# Altium schematic symbol library Soldering_Station_Library.SchLib: 34 symbols
Pins are listed as number, name and electrical type; pins without a type are passive.

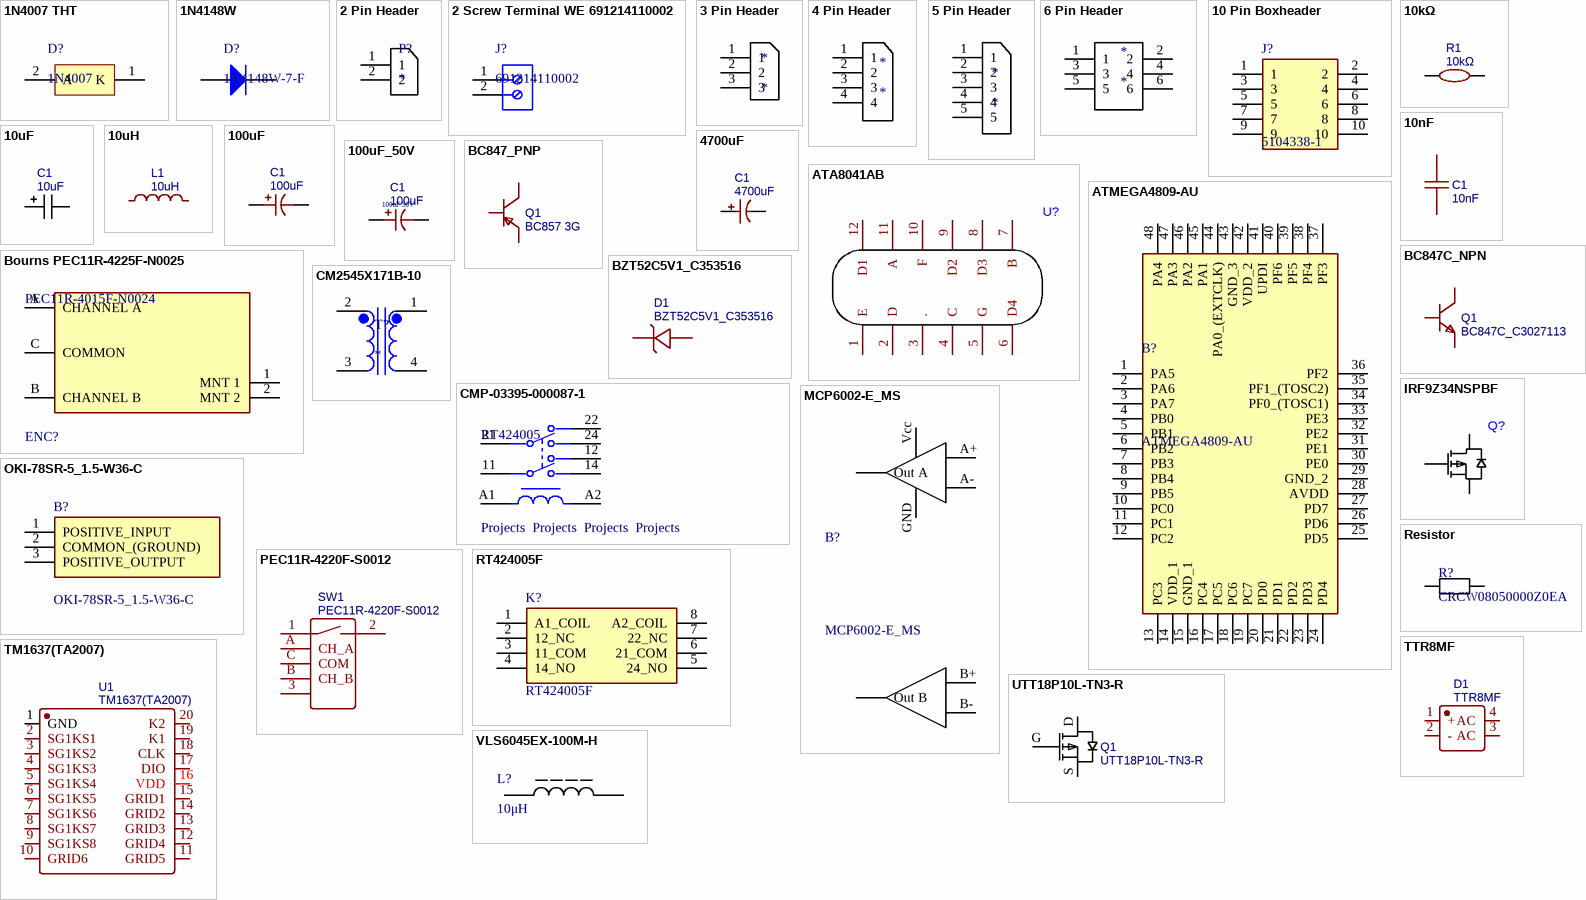
[diagram p0: symbols 1N4007 THT to VLS6045EX-100M-H]

## 1N4007 THT
designator D?, comment 1N4007
Standard Recovery Rectifier, 2-Pin Axial_Lead, Pb-Free, Bulk Bag; Manufacturer: On Semiconductor; IO(rec) Max (A): 1; IFSM Max (A): 30; VRRM Max (V): 1000; ComponentLink3URL: http://www.onsemi.cn/pub_link/Collateral/59-10.PDF; PackageVersion: Rev. U, 02/2005; PackageDescription: 2-Pin, Axial Lead, Diameter 2.35 mm; PackageReference: AXIAL_LEAD-2-59-10; RoHS: TRUE; PartNumber: 1N4007; Packing: Bulk Bag; DatasheetVersion: Rev. 13; ComponentLink3Description: Package Specification; ComponentLink1Description: Manufacturer URL; ComponentLink2URL: http://www.onsemi.com/pub_link/Collateral/1N4001-D.PDF; ComponentLink1URL: http://www.onsemi.com/; Type: Standard Recovery; ComponentLink2Description: Datasheet; Mounting Technology: Through Hole
footprint ONSC-AXIAL_LEAD-2-59-10_P (AXIAL, 2-Leads, Diameter 2.35mm)
pins: 1 K, 2 A

## 1N4148W
designator D?, comment 1N4148W-7-F
Fast Switching Diode, 100 V, 0.15 A, -65 to 150 degC, 2-Pin?SOD123, RoHS, Tape and Reel; Recovery Time: 4ns; Brand: DiodesIncorporated; Unit Weight: 0.000353oz; Max Surge Current: 2A; Peak Reverse Voltage: 100V; Ir - Reverse Current: 1uA; Vf - Forward Voltage: 1.25V; Configuration: Single; If - Forward Current: 0.15A; Product Category: Diodes-GeneralPurpose,Power,Switching; Operating Temperature Range: -65Cto+150C; Packaging: Reel; Manufacturer URL: http://www.diodes.com/; Maximum Operating Temperature: +150C; Height: 1.25mm; Minimum Operating Temperature: -65C; Product: SwitchingDiodes; Package URL: http://www.diodes.com/datasheets/ds18004.pdf; Type: SwitchingDiode; Package Reference: SOD123-2; Width: 1.7mm; Datasheet URL: http://www.farnell.com/datasheets/1915529.pdf; Datasheet Version: Rev. 24-2, 10/2013; Series: 1N4148; Factory Pack Quantity: 3000; Length: 2.85mm; RoHS: True; Manufacturer: DiodesIncorporated; Mounting Style: SMD/SMT; Package / Case: SOD-123
footprint DIOD-SOD123-2_V (SOD123, 2-Leads, Body 2.7x1.55mm, Height 1.45mm)
pins: 1 A, 2 K

## 2 Pin Header
designator P?
Connector Terminal Blocks Receptacle 2 Position 5.08mm Solder Straight Thru-Hole 13.5A/Contact; MP: 282837-2; MF: TE Connectivity; Check_prices: https://www.snapeda.com/parts/282837-2/TE+Connectivity+AMP+Connectors/view-part/?ref=eda; Value: *; Availability: In Stock; Price: None; Package: None; SnapEDA_Link: https://www.snapeda.com/parts/282837-2/TE+Connectivity+AMP+Connectors/view-part/?ref=snap; Purchase-URL: https://pricing.snapeda.com/search/part/282837-2/?ref=eda
footprint TE_282837-2
pins: 1, 2

## 2 Screw Terminal WE 691214110002
designator J?, comment 691214110002
Serie 2141 - 3.50 mm Horizontal Entry Modular with Rising Cage Clamp WR-TBL, 2 pin; Manufacturer: Wurth Elektronik; Pin Number: 2; Pitch: 3.50mm; Datasheet URL: http://katalog.we-online.de/em/datasheet/6912141100xx.pdf; Packaging: Box; Mounting Technology: THT; Package Reference: 691214110002; Manufacturer URL: http://www.we-online.de; Part Number: 691214110002; Publisher: WurthElektronik; Operating Temperature: -40to105degC
footprint 691214110002 (3.50 mm Horizontal Entry Modular, 2p)
pins: 1, 2

## 3 Pin Header
designator *
pins: 1, 2, 3

## 4 Pin Header
designator *
pins: 1, 2, 3, 4

## 5 Pin Header
designator *
pins: 1, 2, 3, 4, 5

## 6 Pin Header
designator *
pins: 1, 2, 3, 4, 5, 6

## 10 Pin Boxheader
designator J?, comment 5104338-1
Header vert 10 way 2.54mm AmpLatch; Manufacturer_Name: TE Connectivity; Geometry.Height: 9.855mm; Mouser Part Number: 571-5104338-1; Mouser Price/Stock: https://www.mouser.co.uk/ProductDetail/TE-Connectivity/5104338-1?qs=84A%2FDAdkstJBRnv2z9usOA%3D%3D; Manufacturer_Part_Number: 5104338-1; Datasheet Link: https://www.te.com/commerce/DocumentDelivery/DDEController?Action=showdoc&DocId=Customer+Drawing%7F5104338%7FE%7Fpdf%7FEnglish%7FENG_CD_5104338_E.pdf%7F5104338-1
footprint SHDR10W82P254_2X5_2026X914X986P
pins: 1, 2, 3, 4, 5, 6, 7, 8, 9, 10

## 10kΩ
designator R1
BOM_Manufacturer: UNI-ROYAL(厚声); BOM_Manufacturer Part: 0805W8F1002T5E; nameAlias: Resistance; Resistance (Ohms): 10K; BOM_Supplier: LCSC; BOM_Supplier Part: C17414; BOM_JLCPCB Part Class: Basic Part; spicePre: R; spiceSymbolName: 0805W8F1002T5E
footprint R0805
pins: 1, 2

## 10nF
designator C1
BOM_Manufacturer: CCTC(三环); BOM_Manufacturer Part: TCC0805X7R103M500DT; nameAlias: Capacitance; Contributor: LCSC; BOM_Supplier: LCSC; BOM_Supplier Part: C376921; BOM_JLCPCB Part Class: Extended Part; spicePre: C; spiceSymbolName: TCC0805X7R103M500DT
footprint C0805
pins: 1, 2

## 10uF
designator C1
BOM_Manufacturer: ST(先科); BOM_Manufacturer Part: CS1E100M-CRC54; nameAlias: Capacitance; Contributor: LCSC; BOM_Supplier: LCSC; BOM_Supplier Part: C98750; BOM_JLCPCB Part Class: Extended Part; spicePre: C; spiceSymbolName: CS1E100M-CRC54
footprint CAP-SMD_BD4.0-L4.3-W4.3-FD-LS5.3
pins: 1, 2

## 10uH
designator L1
BOM_Manufacturer: KOHERelec(科或); BOM_Manufacturer Part: PMI201214S-100M; nameAlias: Inductance; Contributor: LCSC; BOM_Supplier: LCSC; BOM_Supplier Part: C2922559; BOM_JLCPCB Part Class: Extended Part; spicePre: L; spiceSymbolName: PMI201214S-100M
footprint IND-SMD_L2.0-W1.3
pins: 1, 2

## 100uF
designator C1
BOM_Manufacturer: Nichicon(尼吉康); BOM_Manufacturer Part: UWT1H101MNL1GS; Contributor: LCSC; nameAlias: Capacitance; BOM_Supplier: LCSC; BOM_Supplier Part: C445063; BOM_JLCPCB Part Class: Extended Part; spicePre: C; spiceSymbolName: UWT1H101MNL1GS
footprint CAP-SMD_BD8.0-L8.3-W8.3-FD
pins: 1, 2

## 100uF_50V
designator C1, comment 100uF
BOM_Manufacturer: Nichicon(尼吉康); BOM_Manufacturer Part: UWT1H101MNL1GS; Contributor: LCSC; nameAlias: Capacitance; BOM_Supplier: LCSC; BOM_Supplier Part: C445063; BOM_JLCPCB Part Class: Extended Part; spicePre: C; spiceSymbolName: UWT1H101MNL1GS
footprint CAP-SMD_BD8.0-L8.3-W8.3-FD
pins: 1, 2
text: 100uF 50V

## 4700uF
designator C1
BOM_Manufacturer: CX(承兴); BOM_Manufacturer Part: GR478M050O25RR0VZ2FPD; nameAlias: Capacitance; BOM_Supplier: LCSC; BOM_Supplier Part: C45663; BOM_JLCPCB Part Class: Extended Part; spicePre: C; spiceSymbolName: 4700uF 50V 25*25Purple high frequency plus gasket
footprint CAP-TH_BD25.0-P10.00-D1.4-FD
pins: 1, 2

## ATA8041AB
designator U?
footprint NONE
pins: 1 E, 2 D, 3 ., 4 C, 5 G, 6 D4, 7 B, 8 D3, 9 D2, 10 F, 11 A, 12 D1

## ATMEGA4809-AU
designator B?
8-bit Microcontrollers - MCU 20MHz, 48KB, TQFP; Manufacturer_Name: Microchip; Geometry.Height: 1.2mm; Mouser Part Number: 556-ATMEGA4809-AU; Mouser Price/Stock: https://www.mouser.co.uk/ProductDetail/Microchip-Technology-Atmel/ATMEGA4809-AU?qs=P1JMDcb91o4zLIorxO9tIg%3D%3D; Manufacturer_Part_Number: ATMEGA4809-AU; Datasheet Link: *
footprint QFP50P900X900X120-48N
pins: 1 PA5, 2 PA6, 3 PA7, 4 PB0, 5 PB1, 6 PB2, 7 PB3, 8 PB4, 9 PB5, 10 PC0, 11 PC1, 12 PC2, 13 PC3, 14 VDD_1, 15 GND_1, 16 PC4, 17 PC5, 18 PC6, 19 PC7, 20 PD0, 21 PD1, 22 PD2, 23 PD3, 24 PD4, 25 PD5, 26 PD6, 27 PD7, 28 AVDD, 29 GND_2, 30 PE0, 31 PE1, 32 PE2, 33 PE3, 34 PF0_(TOSC1), 35 PF1_(TOSC2), 36 PF2, 37 PF3, 38 PF4, 39 PF5, 40 PF6, 41 UPDI, 42 VDD_2, 43 GND_3, 44 PA0_(EXTCLK), 45 PA1, 46 PA2, 47 PA3, 48 PA4

## BC847_PNP
designator Q1, comment BC857 3G
BOM_Manufacturer: CJ(江苏长电/长晶); BOM_Supplier: LCSC; BOM_Manufacturer Part: BC857; BOM_Supplier Part: C2139; BOM_JLCPCB Part Class: Extended Part; spicePre: Q; spiceSymbolName: BC857 3G
footprint SOT-23-3_L2.9-W1.6-P1.90-LS2.8-BR
pins: 1, 2, 3

## BC847C_NPN
designator Q1, comment BC847C_C3027113
BOM_Manufacturer: SALLTECH(萨瑞); BOM_Manufacturer Part: BC847C; Contributor: lcsc; BOM_Supplier: LCSC; BOM_Supplier Part: C3027113; link: https://atta.szlcsc.com/upload/public/pdf/source/20220824/287706FC7904CA05889B348536529CCD.pdf; BOM_JLCPCB Part Class: Extended Part; spicePre: Q; spiceSymbolName: BC847C_C3027113
footprint SOT-23-3_L2.9-W1.3-P0.95-LS2.4-BR
pins: 1 B, 2 E, 3 C

## Bourns PEC11R-4225F-N0025
designator ENC?, comment PEC11R-4015F-N0024
ROTARY ENCODER MECHANICAL 24PPR; Manufacturer: Bourns; Current Rating: 10mA; Number Of Circuits: 1; Conn Orientation: Vertical; Encoder Type: Incremental; Detent: No; Pulses Per Rev: 24; Voltage Rating Dc: 5V; Manufacturer Part Number: PEC11R-4015F-N0024; Height: 22.3mm; ComponentLink2URL: https://www.bourns.com/docs/product-datasheets/pec11r.pdf?sfvrsn=bb617cbf_7; Mouser Description: Encoders 15mm SHAFT NO SWITCH; Package: 0; RoHS: TRUE; Temperature Range High: +70°C; Device Class L1: Electromechanical; Device Class L3: Encoders; Temperature Range Low: -30°C; Device Class L2: Switches; Temperature: -30°C to +70°C; Category: Enc; ComponentLink2Description: Datasheet; Lead Free: Yes; Automotive: No; Octopart: https://octopart.com/pec11r-4015f-n0024-bourns-26648251; Digikey Description: ROTARY ENCODER MECHANICAL 24PPR
footprint FP-PEC11R-4015F-N0024-MFG
pins: 1 MNT 1, 2 MNT 2, A CHANNEL A, B CHANNEL B, C COMMON

## BZT52C5V1_C353516
designator D1
BOM_Manufacturer: 晶导微电子; Contributor: LCSC; BOM_Supplier: LCSC; BOM_Supplier Part: C353516; BOM_Manufacturer Part: BZT52C5V1; BOM_JLCPCB Part Class: Extended Part; spicePre: D; spiceSymbolName: BZT52C5V1_C353516
footprint SOD-123_L2.7-W1.7-LS3.8-RD
pins: 1 K, 2 A

## CM2545X171B-10
designator T?
2 Line Common Mode Choke Through Hole 170 Ohms @ 100 MHz 10A DCR 10mOhm; MF: Laird; MP: CM2545X171B-10; Value: *; Purchase-URL: https://pricing.snapeda.com/search/part/CM2545X171B-10/?ref=eda; Price: None; Package: Vertical-4 Laird; SnapEDA_Link: https://www.snapeda.com/parts/CM2545X171B-10/Laird/view-part/?ref=snap; Availability: In Stock; Check_prices: https://www.snapeda.com/parts/CM2545X171B-10/Laird/view-part/?ref=eda
footprint XFMR_CM2545X171B-10
pins: 1, 2, 3, 4

## CMP-03395-000087-1
designator Projects, comment Projects  Projects  Projects  RT424005
RELAY GENERAL PURPOSE DPDT 8A 5V; Manufacturer: TE Connectivity; Coil Power: 403mW; Number Of Contacts: 2; Coil Resistance: 62Ω; Coil Type: Non-Latching; Manufacturer Part Number: RT424005; Category: Relay; Octopart: https://octopart.com/5-1393243-9-te+connectivity-41835766; Device Class L3: Power Relays; ComponentLink2URL: https://www.te.com/commerce/DocumentDelivery/DDEController?Action=showdoc&DocId=Data+Sheet%7FRT2%7F1014%7Fpdf%7FEnglish%7FENG_DS_RT2_1014.pdf%7F5-1393243-9; Ambient Temperature Range High: +85°C; ComponentLink2Description: Datasheet; Throw Configuration: DPDT; Digikey Description: RELAY GENERAL PURPOSE DPDT 8A 5V; Package: RT424005; Automotive: No; Device Class L1: Electromechanical; Height: 15.7mm; Device Class L2: Relays; Ambient Temperature Range Low: -40°C; Coil Voltage: 5V; Current Rating: 8A; Mouser Description: General Purpose Relay, Rt2 Series, Power, Non Latching, Dpdt, 5 Vdc, 8 A Rohs Compliant: Yes; Lead Free: Yes; RoHS: TRUE
footprint FP-RT424005-MFG
pins: 11, 12, 14, 21, 22, 24, A1, A2

## IRF9Z34NSPBF
designator Q?
footprint IRF9Z34NPBF 改
pins: 2 D, 3 S, 4

## MCP6002-E_MS
designator B?
OP Amp Dual GP R-R I/O 6V; Manufacturer_Name: Microchip; Manufacturer_Part_Number: MCP6002-E/MS; Geometry.Height: 1.1mm; Mouser Part Number: 579-MCP6002-E/MS; Mouser Price/Stock: https://www.mouser.co.uk/ProductDetail/Microchip-Technology-Atmel/MCP6002-E-MS?qs=huzeVNXgovXv0kPjGdVLUA%3D%3D; Datasheet Link: https://datasheet.datasheetarchive.com/originals/distributors/Datasheets-304/55313.pdf
footprint SOP65P490X110-8N
pins: 7 Out B, ?1 Out A, A+ VINA+, A- VINA-, B+ VINB+, B- VINB-, GND VSS, Vcc VDD

## OKI-78SR-5_1.5-W36-C
designator B?
Non-Isolated DC/DC Converters 7.5W 24Vin 5Vout1 1.5A SIP Non-Iso; Manufacturer_Name: Murata Electronics; Manufacturer_Part_Number: OKI-78SR-5/1.5-W36-C; Geometry.Height: 16.5mm; Mouser Part Number: 580-OKI78SR5/1.5W36C; Mouser Price/Stock: https://www.mouser.co.uk/ProductDetail/Murata-Power-Solutions/OKI-78SR-5-1.5-W36-C?qs=uJpRT2lXVNXJP%252Bo08dQqJQ%3D%3D; Datasheet Link: https://www.murata.com/products/productdata/8807037992990/oki-78sr.pdf?1583754815000
footprint OKI78SR515W36C
pins: 1 POSITIVE_INPUT, 2 COMMON_(GROUND), 3 POSITIVE_OUTPUT

## PEC11R-4220F-S0012
designator SW1
BOM_Manufacturer: BOURNS; Contributor: LCSC; BOM_Supplier: LCSC; BOM_Manufacturer Part: PEC11R-4220F-S0012; BOM_Supplier Part: C143817; BOM_JLCPCB Part Class: Extended Part; spicePre: S; spiceSymbolName: PEC11R-4220F-S0012
footprint SW-TH_PEC11R-4220F-S0012
pins: 1, 2, 3, A CH_A, B CH_B, C COM

## Resistor
designator R?, comment CRCW08050000Z0EA
Manufacturer: Vishay Dale; Part Number: CRCW08050000Z0EA
footprint RESC2013X50X30ML20T20 (Chip Resistor, 2-Leads, Body 2.00x1.25mm, IPC Low Density)
footprint RESC2013X50X30NL20T20 (Chip Resistor, 2-Leads, Body 2.00x1.25mm, IPC Medium Density)
footprint RESC2013X50X30LL20T20 (Chip Resistor, 2-Leads, Body 2.00x1.25mm, IPC High Density)
pins: 1, 2
1 alternate drawing of the same symbol

## RT424005F
designator K?
General Purpose Relays DPDT 8A 5VDC GEN PURPOSE RELAY; Manufacturer_Name: TE Connectivity; Mouser Part Number: 655-RT424005F; Mouser Price/Stock: https://www.mouser.co.uk/ProductDetail/TE-Connectivity-PB/RT424005F?qs=8wHch9UpSvaH%252B%252BmsSCbj0Q%3D%3D; Manufacturer_Part_Number: RT424005F; Datasheet Link: https://datasheet.datasheetarchive.com/originals/distributors/Datasheets_SAMA/2ef22a7a34dcc6453ddb52063c55ccaa.pdf
footprint RT42
pins: 1 A1_COIL, 2 12_NC, 3 11_COM, 4 14_NO, 5 24_NO, 6 21_COM, 7 22_NC, 8 A2_COIL

## TM1637(TA2007)
designator U1
BOM_Manufacturer: TM(天微); Contributor: lcsc; BOM_Supplier: LCSC; BOM_Supplier Part: C5337160; BOM_Manufacturer Part: TM1637(TA2007); BOM_JLCPCB Part Class: Extended Part; spicePre: U; spiceSymbolName: TM1637(TA2007)
footprint SOP-20_L12.8-W7.5-P1.27-LS10.4-BL
pins: 1 GND, 2 SG1KS1, 3 SG1KS2, 4 SG1KS3, 5 SG1KS4, 6 SG1KS5, 7 SG1KS6, 8 SG1KS7, 9 SG1KS8, 10 GRID6, 11 GRID5, 12 GRID4, 13 GRID3, 14 GRID2, 15 GRID1, 16 VDD, 17 DIO, 18 CLK, 19 K1, 20 K2

## TTR8MF
designator D1
BOM_Manufacturer: MDD; Contributor: LCSC; BOM_Supplier: LCSC; BOM_Supplier Part: C712546; BOM_Manufacturer Part: TTR8MF; BOM_JLCPCB Part Class: Extended Part; spicePre: D; spiceSymbolName: TTR8MF
footprint DIO-BG-SMD_4P-L9.6-W8.6-P5.10-LS10.0-BL
pins: 1 +, 2 -, 3 AC, 4 AC

## UTT18P10L-TN3-R
designator Q1
BOM_Manufacturer: UTC(友顺); BOM_Supplier: LCSC; BOM_Manufacturer Part: UTT18P10L-TN3-R; BOM_Supplier Part: C84900; BOM_JLCPCB Part Class: Extended Part; spicePre: Q; spiceSymbolName: UTT18P10L-TN3-R
footprint TO-252-2_L6.6-W6.1-P4.57-LS9.9-TL-CW
pins: D 5, G 6, S 7

## VLS6045EX-100M-H
designator L?, comment 10μH
Inductor; Manufacturer_Name: TDK; Manufacturer_Part_Number: VLS6045EX-100M-H; Datasheet Link: https://componentsearchengine.com//VLS6045EX-100M-H.pdf; Mouser2 Part Number: 810-VLS6045EX-100M-H; Mouser2 Price/Stock: https://www.mouser.com/Search/Refine.aspx?Keyword=810-VLS6045EX-100M-H
footprint VLS56045
pins: 1, 2